# EAGLE library part AD5593R (library NA-2025)
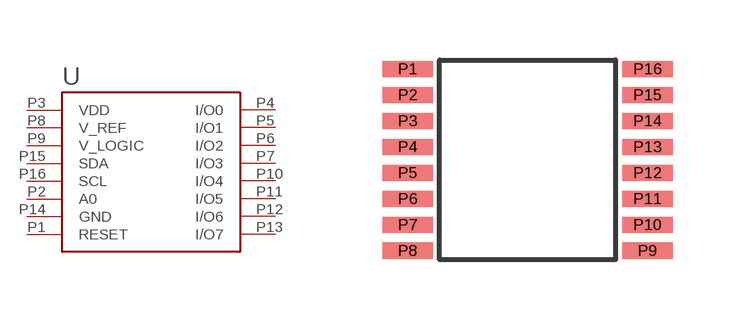
[diagram p52: symbol with the pads of AD5593R; footprint AD5593R]

Designator prefix -

## AD5593R  [AD5593R]
P1  RESET
P2  A0
P3  VDD
P4  I/O0
P5  I/O1
P6  I/O2
P7  I/O3
P8  V_REF
P9  V_LOGIC
P10  I/O4
P11  I/O5
P12  I/O6
P13  I/O7
P14  GND
P15  SDA
P16  SCL

## Footprint AD5593R (pad centres in mm)
smd 1.27 x 0.4: P1 -3,2.275; P2 -3,1.625; P3 -3,0.975; P4 -3,0.325; P5 -3,-0.325; P6 -3,-0.975; P7 -3,-1.625; P8 -3,-2.275; P9 3,-2.275; P10 3,-1.625; P11 3,-0.975; P12 3,-0.325; P13 3,0.325; P14 3,0.975; P15 3,1.625; P16 3,2.275